# Altium schematic symbol library SW-5G-MEC-SMD-SPST-NO.SchLib: 1 symbol
Pins are listed as number, name and electrical type; pins without a type are passive.

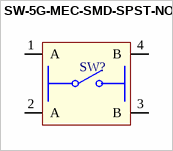
[diagram p0: symbol SW-5G-MEC-SMD-SPST-NO]

## SW-5G-MEC-SMD-SPST-NO
designator SW?  (value not drawn)
pins: 1 A, 2 A, 3 B, 4 B